# Altium integrated library Linear Technology Power Management System Supervisor, Monitor and Control.IntLib: 1611 symbols (part 37 of 100)
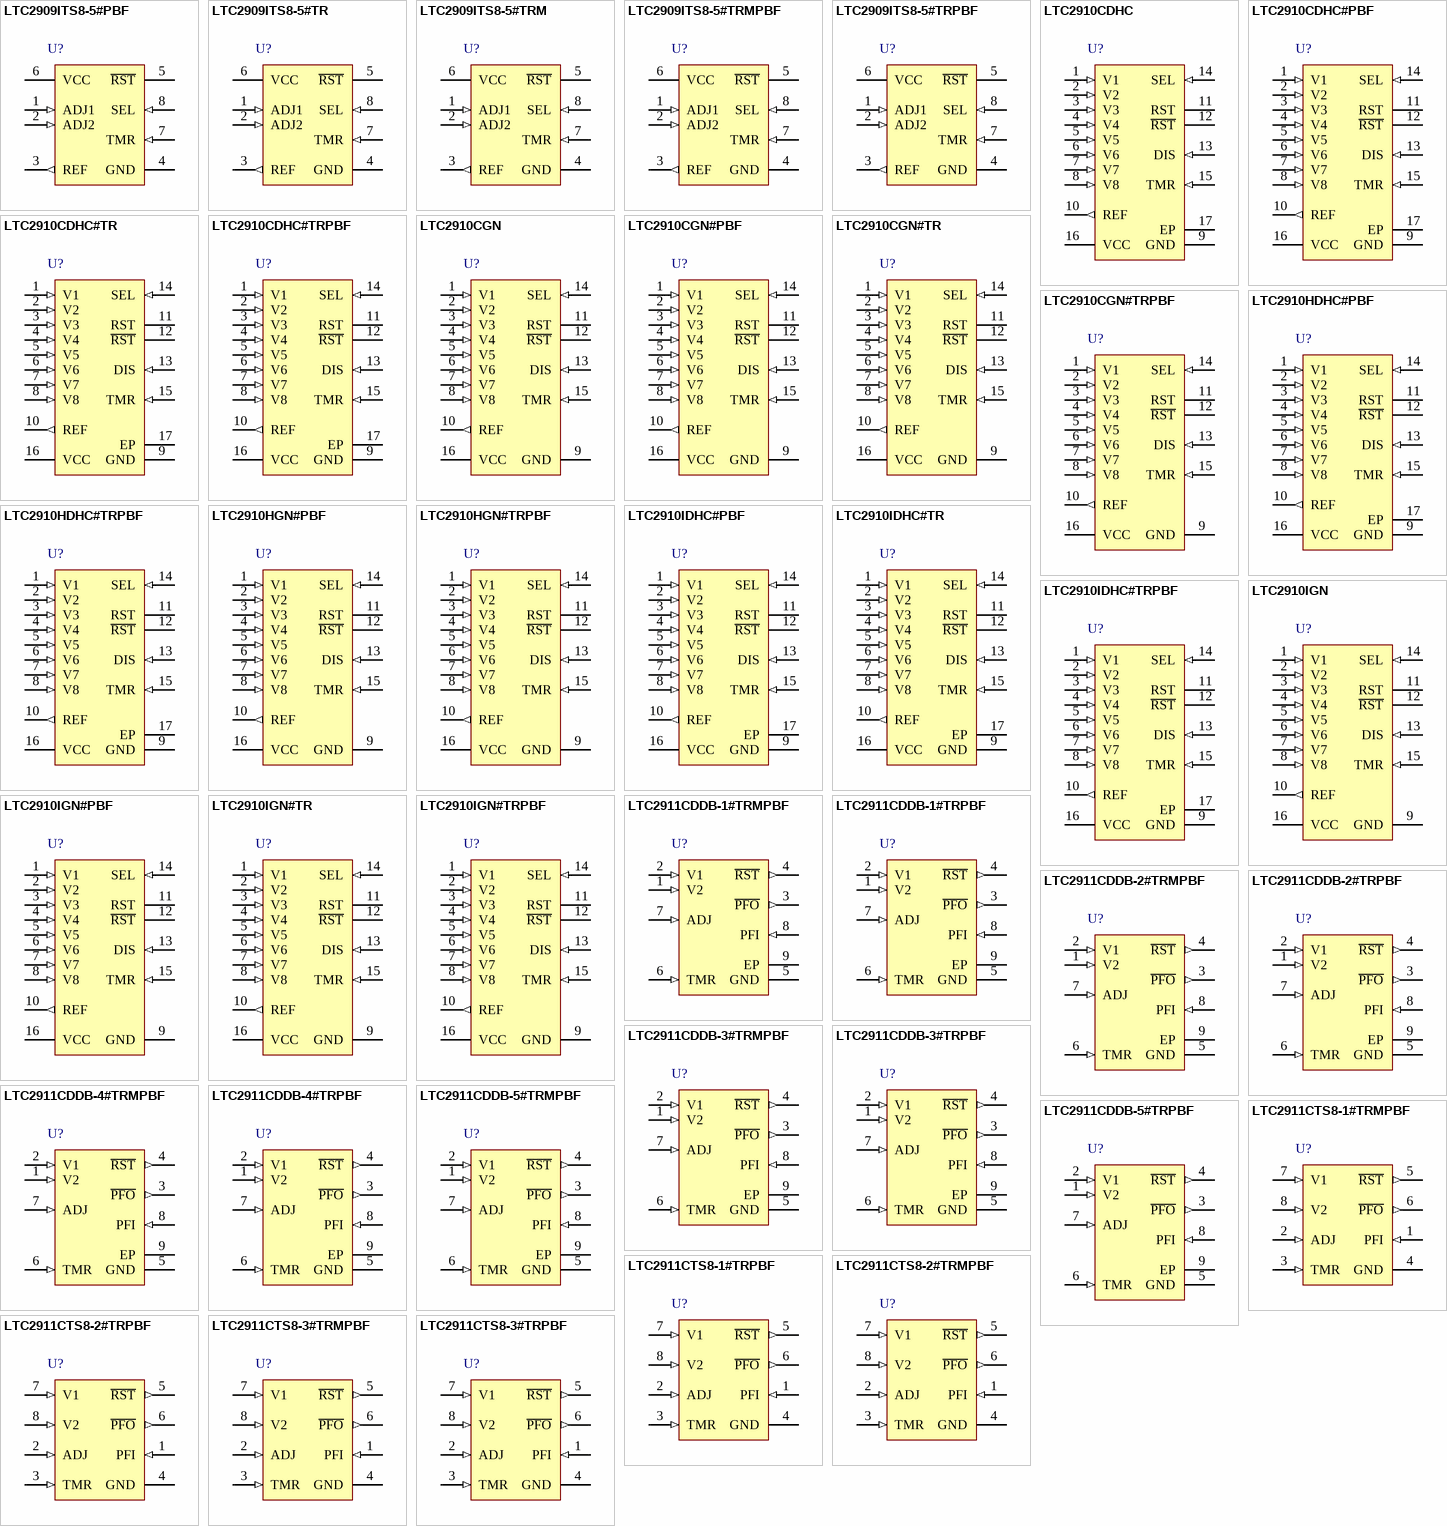
[diagram p81: symbols LTC2909ITS8-5#PBF to LTC2911CTS8-3#TRPBF]

## LTC2910HDHC#PBF
designator U?
Octal Positive / Negative Voltage Monitor, 16-pin SON (DHC-16), -40 to 125 degC, Pb-Free; Manufacturer: Linear Technology; PartNumber: LTC2910HDHC#PBF; Number of Supplies(#): 8; DatasheetVersion: Rev. C; PackageVersion: Jun-10; PackageReference: DHC-16; PackageDescription: 16-Pin Plastic DFN, Body 5 x 3 mm, Pitch 0.5 mm; Supplier 1: Digi-Key; Supplier Part Number 1: LTC2910HDHC#PBF-ND; RoHS: TRUE; Mounting Technology: Surface Mount; Code_JEDEC: MO-229; ComponentLink1Description: Manufacturer URL; ComponentLink1URL: http://www.linear.com/; ComponentLink2Description: Datasheet; ComponentLink2URL: http://cds.linear.com/docs/en/datasheet/2910fc.pdf; ComponentLink3Description: Package Specification; ComponentLink3URL: http://cds.linear.com/docs/en/packaging/DFN_16_05-08-1706.pdf
footprint LT-DHC-16_V (SON, 16-Leads, Body 5x3mm, Pitch 0.5mm, Thermal Pad 4.4X1.65mm)
pins: 1 V1 (in) "Voltage Inputs 1 through 6. When the voltage on this pin is below 0.5V, a reset condition is triggered. Tie pin to VCC if unused.", 2 V2 (in) "Voltage Inputs 1 through 6. When the voltage on this pin is below 0.5V, a reset condition is triggered. Tie pin to VCC if unused.", 3 V3 (in) "Voltage Inputs 1 through 6. When the voltage on this pin is below 0.5V, a reset condition is triggered. Tie pin to VCC if unused.", 4 V4 (in) "Voltage Inputs 1 through 6. When the voltage on this pin is below 0.5V, a reset condition is triggered. Tie pin to VCC if unused.", 5 V5 (in) "Voltage Inputs 1 through 6. When the voltage on this pin is below 0.5V, a reset condition is triggered. Tie pin to VCC if unused.", 6 V6 (in) "Voltage Inputs 1 through 6. When the voltage on this pin is below 0.5V, a reset condition is triggered. Tie pin to VCC if unused.", 7 V7 (in) "Voltage Inputs 7 and 8. The polarity of the input is selected by the state of the SEL pin (refer to Table 1). When the monitored input is configured as a positive voltage, a reset condition is triggered when the pin is below (See Datasheet)", 8 V8 (in) "Voltage Inputs 7 and 8. The polarity of the input is selected by the state of the SEL pin (refer to Table 1). When the monitored input is configured as a positive voltage, a reset condition is triggered when the pin is below (See Datasheet)", 9 GND (power) "Device Ground", 10 REF (out) "Buffered Reference Output. 1V reference used for the offset of negative-monitoring applications. The buffered reference sources and sinks up to 1mA. The reference drives capacitive loads up to 1nF. Larger capacitive loads (See Datasheet)", 11 RST (oc) "Open-Drain Reset Logic Output. Asserts high when any positive polarity input voltage is below threshold or any negative polarity input voltage is above threshold. Held high for an adjustable delay time after all voltage (See Datasheet)", 12 ~{RST} (oc) "Open-Drain Inverted Reset Logic Output. Asserts low when any positive polarity input voltage is below threshold or any negative polarity input voltage is above threshold. Held low for an adjustable delay time after all (See Datasheet)", 13 DIS (in) "Output Disable Input. Disables the RST and R\S\T\ output pins. When DIS is pulled high, the RST and R\S\T\ pins are not asserted except during a UVLO condition. Pin has a weak (2uA) internal pull-down to GND. Leave pin open (See Datasheet)", 14 SEL (in) "Input Polarity Select Three-State Input. Connect to VCC, GND or leave unconnected in open state to select one of three possible input polarity combinations (refer to Table 1).", 15 TMR (in) "Reset Delay Timer. Attach an external capacitor (CTMR) of at least 10pF to GND to set a reset delay time of 9ms/nF. A 1nF capacitor will generate an 8.5ms reset delay time. Tie pin to VCC to bypass timer", 16 VCC (power) "Supply Voltage. Bypass this pin to GND with a 0.1uF (or greater) capacitor. Operates as a direct supply input for voltages up to 6V. Operates as a shunt regulator for supply voltages greater than 6V and must have a (See Datasheet)", 17 EP (power) "Exposed pad may be left open or connected to device ground."

## LTC2910HDHC#TRPBF
designator U?
Octal Positive / Negative Voltage Monitor, 16-pin SON (DHC-16), -40 to 125 degC, Pb-Free, Tape and Reel; Manufacturer: Linear Technology; PartNumber: LTC2910HDHC#TRPBF; Number of Supplies(#): 8; DatasheetVersion: Rev. C; PackageVersion: Jun-10; PackageReference: DHC-16; PackageDescription: 16-Pin Plastic DFN, Body 5 x 3 mm, Pitch 0.5 mm; Supplier 1: Digi-Key; Supplier Part Number 1: LTC2910HDHC#TRPBF-ND; Supplier 2: Newark; Supplier Part Number 2: 75M4473; Packing: Tape and Reel; RoHS: TRUE; Mounting Technology: Surface Mount; Code_JEDEC: MO-229; ComponentLink1Description: Manufacturer URL; ComponentLink1URL: http://www.linear.com/; ComponentLink2Description: Datasheet; ComponentLink2URL: http://cds.linear.com/docs/en/datasheet/2910fc.pdf; ComponentLink3Description: Package Specification; ComponentLink3URL: http://cds.linear.com/docs/en/packaging/DFN_16_05-08-1706.pdf
footprint LT-DHC-16_V (SON, 16-Leads, Body 5x3mm, Pitch 0.5mm, Thermal Pad 4.4X1.65mm)
pins: 1 V1 (in) "Voltage Inputs 1 through 6. When the voltage on this pin is below 0.5V, a reset condition is triggered. Tie pin to VCC if unused.", 2 V2 (in) "Voltage Inputs 1 through 6. When the voltage on this pin is below 0.5V, a reset condition is triggered. Tie pin to VCC if unused.", 3 V3 (in) "Voltage Inputs 1 through 6. When the voltage on this pin is below 0.5V, a reset condition is triggered. Tie pin to VCC if unused.", 4 V4 (in) "Voltage Inputs 1 through 6. When the voltage on this pin is below 0.5V, a reset condition is triggered. Tie pin to VCC if unused.", 5 V5 (in) "Voltage Inputs 1 through 6. When the voltage on this pin is below 0.5V, a reset condition is triggered. Tie pin to VCC if unused.", 6 V6 (in) "Voltage Inputs 1 through 6. When the voltage on this pin is below 0.5V, a reset condition is triggered. Tie pin to VCC if unused.", 7 V7 (in) "Voltage Inputs 7 and 8. The polarity of the input is selected by the state of the SEL pin (refer to Table 1). When the monitored input is configured as a positive voltage, a reset condition is triggered when the pin is below (See Datasheet)", 8 V8 (in) "Voltage Inputs 7 and 8. The polarity of the input is selected by the state of the SEL pin (refer to Table 1). When the monitored input is configured as a positive voltage, a reset condition is triggered when the pin is below (See Datasheet)", 9 GND (power) "Device Ground", 10 REF (out) "Buffered Reference Output. 1V reference used for the offset of negative-monitoring applications. The buffered reference sources and sinks up to 1mA. The reference drives capacitive loads up to 1nF. Larger capacitive loads (See Datasheet)", 11 RST (oc) "Open-Drain Reset Logic Output. Asserts high when any positive polarity input voltage is below threshold or any negative polarity input voltage is above threshold. Held high for an adjustable delay time after all voltage (See Datasheet)", 12 ~{RST} (oc) "Open-Drain Inverted Reset Logic Output. Asserts low when any positive polarity input voltage is below threshold or any negative polarity input voltage is above threshold. Held low for an adjustable delay time after all (See Datasheet)", 13 DIS (in) "Output Disable Input. Disables the RST and R\S\T\ output pins. When DIS is pulled high, the RST and R\S\T\ pins are not asserted except during a UVLO condition. Pin has a weak (2uA) internal pull-down to GND. Leave pin open (See Datasheet)", 14 SEL (in) "Input Polarity Select Three-State Input. Connect to VCC, GND or leave unconnected in open state to select one of three possible input polarity combinations (refer to Table 1).", 15 TMR (in) "Reset Delay Timer. Attach an external capacitor (CTMR) of at least 10pF to GND to set a reset delay time of 9ms/nF. A 1nF capacitor will generate an 8.5ms reset delay time. Tie pin to VCC to bypass timer", 16 VCC (power) "Supply Voltage. Bypass this pin to GND with a 0.1uF (or greater) capacitor. Operates as a direct supply input for voltages up to 6V. Operates as a shunt regulator for supply voltages greater than 6V and must have a (See Datasheet)", 17 EP (power) "Exposed pad may be left open or connected to device ground."

## LTC2910HGN#PBF
designator U?
Octal Positive / Negative Voltage Monitor, 16-pin SOP (GN-16), -40 to 125 degC, Pb-Free; Manufacturer: Linear Technology; PartNumber: LTC2910HGN#PBF; Number of Supplies(#): 8; DatasheetVersion: Rev. C; PackageVersion: Rev. B, 03/2012; PackageReference: GN-16; PackageDescription: 16-Pin Plastic SSOP, Body 4.9 x 3.9 mm, Pitch 0.635 mm; Supplier 1: Digi-Key; Supplier Part Number 1: LTC2910HGN#PBF-ND; Supplier 2: Newark; Supplier Part Number 2: 75M4474; RoHS: TRUE; Mounting Technology: Surface Mount; ComponentLink1Description: Manufacturer URL; ComponentLink1URL: http://www.linear.com/; ComponentLink2Description: Datasheet; ComponentLink2URL: http://cds.linear.com/docs/en/datasheet/2910fc.pdf; ComponentLink3Description: Package Specification; ComponentLink3URL: http://cds.linear.com/docs/en/packaging/05081641_B_GN16.pdf
footprint LT-GN-16_N (SOP, 16-Leads, Body 5x4mm, Pitch 0.635mm, IPC Medium Density)
footprint LT-GN-16_L (SOP, 16-Leads, Body 5x4mm, Pitch 0.635mm, IPC High Density)
footprint LT-GN-16_M (SOP, 16-Leads, Body 5x4mm, Pitch 0.635mm, IPC Low Density)
pins: 1 V1 (in) "Voltage Inputs 1 through 6. When the voltage on this pin is below 0.5V, a reset condition is triggered. Tie pin to VCC if unused.", 2 V2 (in) "Voltage Inputs 1 through 6. When the voltage on this pin is below 0.5V, a reset condition is triggered. Tie pin to VCC if unused.", 3 V3 (in) "Voltage Inputs 1 through 6. When the voltage on this pin is below 0.5V, a reset condition is triggered. Tie pin to VCC if unused.", 4 V4 (in) "Voltage Inputs 1 through 6. When the voltage on this pin is below 0.5V, a reset condition is triggered. Tie pin to VCC if unused.", 5 V5 (in) "Voltage Inputs 1 through 6. When the voltage on this pin is below 0.5V, a reset condition is triggered. Tie pin to VCC if unused.", 6 V6 (in) "Voltage Inputs 1 through 6. When the voltage on this pin is below 0.5V, a reset condition is triggered. Tie pin to VCC if unused.", 7 V7 (in) "Voltage Inputs 7 and 8. The polarity of the input is selected by the state of the SEL pin (refer to Table 1). When the monitored input is configured as a positive voltage, a reset condition is triggered when the pin is below (See Datasheet)", 8 V8 (in) "Voltage Inputs 7 and 8. The polarity of the input is selected by the state of the SEL pin (refer to Table 1). When the monitored input is configured as a positive voltage, a reset condition is triggered when the pin is below (See Datasheet)", 9 GND (power) "Device Ground", 10 REF (out) "Buffered Reference Output. 1V reference used for the offset of negative-monitoring applications. The buffered reference sources and sinks up to 1mA. The reference drives capacitive loads up to 1nF. Larger capacitive loads (See Datasheet)", 11 RST (oc) "Open-Drain Reset Logic Output. Asserts high when any positive polarity input voltage is below threshold or any negative polarity input voltage is above threshold. Held high for an adjustable delay time after all voltage (See Datasheet)", 12 ~{RST} (oc) "Open-Drain Inverted Reset Logic Output. Asserts low when any positive polarity input voltage is below threshold or any negative polarity input voltage is above threshold. Held low for an adjustable delay time after all (See Datasheet)", 13 DIS (in) "Output Disable Input. Disables the RST and R\S\T\ output pins. When DIS is pulled high, the RST and R\S\T\ pins are not asserted except during a UVLO condition. Pin has a weak (2uA) internal pull-down to GND. Leave pin open (See Datasheet)", 14 SEL (in) "Input Polarity Select Three-State Input. Connect to VCC, GND or leave unconnected in open state to select one of three possible input polarity combinations (refer to Table 1).", 15 TMR (in) "Reset Delay Timer. Attach an external capacitor (CTMR) of at least 10pF to GND to set a reset delay time of 9ms/nF. A 1nF capacitor will generate an 8.5ms reset delay time. Tie pin to VCC to bypass timer", 16 VCC (power) "Supply Voltage. Bypass this pin to GND with a 0.1uF (or greater) capacitor. Operates as a direct supply input for voltages up to 6V. Operates as a shunt regulator for supply voltages greater than 6V and must have a (See Datasheet)"

## LTC2910HGN#TRPBF
designator U?
Octal Positive / Negative Voltage Monitor, 16-pin SOP (GN-16), -40 to 125 degC, Pb-Free, Tape and Reel; Manufacturer: Linear Technology; PartNumber: LTC2910HGN#TRPBF; Number of Supplies(#): 8; DatasheetVersion: Rev. C; PackageVersion: Rev. B, 03/2012; PackageReference: GN-16; PackageDescription: 16-Pin Plastic SSOP, Body 4.9 x 3.9 mm, Pitch 0.635 mm; Supplier 1: Digi-Key; Supplier Part Number 1: LTC2910HGN#TRPBF-ND; Packing: Tape and Reel; RoHS: TRUE; Mounting Technology: Surface Mount; ComponentLink1Description: Manufacturer URL; ComponentLink1URL: http://www.linear.com/; ComponentLink2Description: Datasheet; ComponentLink2URL: http://cds.linear.com/docs/en/datasheet/2910fc.pdf; ComponentLink3Description: Package Specification; ComponentLink3URL: http://cds.linear.com/docs/en/packaging/05081641_B_GN16.pdf
footprint LT-GN-16_N (SOP, 16-Leads, Body 5x4mm, Pitch 0.635mm, IPC Medium Density)
footprint LT-GN-16_L (SOP, 16-Leads, Body 5x4mm, Pitch 0.635mm, IPC High Density)
footprint LT-GN-16_M (SOP, 16-Leads, Body 5x4mm, Pitch 0.635mm, IPC Low Density)
pins: 1 V1 (in) "Voltage Inputs 1 through 6. When the voltage on this pin is below 0.5V, a reset condition is triggered. Tie pin to VCC if unused.", 2 V2 (in) "Voltage Inputs 1 through 6. When the voltage on this pin is below 0.5V, a reset condition is triggered. Tie pin to VCC if unused.", 3 V3 (in) "Voltage Inputs 1 through 6. When the voltage on this pin is below 0.5V, a reset condition is triggered. Tie pin to VCC if unused.", 4 V4 (in) "Voltage Inputs 1 through 6. When the voltage on this pin is below 0.5V, a reset condition is triggered. Tie pin to VCC if unused.", 5 V5 (in) "Voltage Inputs 1 through 6. When the voltage on this pin is below 0.5V, a reset condition is triggered. Tie pin to VCC if unused.", 6 V6 (in) "Voltage Inputs 1 through 6. When the voltage on this pin is below 0.5V, a reset condition is triggered. Tie pin to VCC if unused.", 7 V7 (in) "Voltage Inputs 7 and 8. The polarity of the input is selected by the state of the SEL pin (refer to Table 1). When the monitored input is configured as a positive voltage, a reset condition is triggered when the pin is below (See Datasheet)", 8 V8 (in) "Voltage Inputs 7 and 8. The polarity of the input is selected by the state of the SEL pin (refer to Table 1). When the monitored input is configured as a positive voltage, a reset condition is triggered when the pin is below (See Datasheet)", 9 GND (power) "Device Ground", 10 REF (out) "Buffered Reference Output. 1V reference used for the offset of negative-monitoring applications. The buffered reference sources and sinks up to 1mA. The reference drives capacitive loads up to 1nF. Larger capacitive loads (See Datasheet)", 11 RST (oc) "Open-Drain Reset Logic Output. Asserts high when any positive polarity input voltage is below threshold or any negative polarity input voltage is above threshold. Held high for an adjustable delay time after all voltage (See Datasheet)", 12 ~{RST} (oc) "Open-Drain Inverted Reset Logic Output. Asserts low when any positive polarity input voltage is below threshold or any negative polarity input voltage is above threshold. Held low for an adjustable delay time after all (See Datasheet)", 13 DIS (in) "Output Disable Input. Disables the RST and R\S\T\ output pins. When DIS is pulled high, the RST and R\S\T\ pins are not asserted except during a UVLO condition. Pin has a weak (2uA) internal pull-down to GND. Leave pin open (See Datasheet)", 14 SEL (in) "Input Polarity Select Three-State Input. Connect to VCC, GND or leave unconnected in open state to select one of three possible input polarity combinations (refer to Table 1).", 15 TMR (in) "Reset Delay Timer. Attach an external capacitor (CTMR) of at least 10pF to GND to set a reset delay time of 9ms/nF. A 1nF capacitor will generate an 8.5ms reset delay time. Tie pin to VCC to bypass timer", 16 VCC (power) "Supply Voltage. Bypass this pin to GND with a 0.1uF (or greater) capacitor. Operates as a direct supply input for voltages up to 6V. Operates as a shunt regulator for supply voltages greater than 6V and must have a (See Datasheet)"

## LTC2910IDHC#PBF
designator U?
Octal Positive / Negative Voltage Monitor, 16-pin SON (DHC-16), -40 to 85 degC, Pb-Free; Manufacturer: Linear Technology; PartNumber: LTC2910IDHC#PBF; Number of Supplies(#): 8; DatasheetVersion: Rev. C; PackageVersion: Jun-10; PackageReference: DHC-16; PackageDescription: 16-Pin Plastic DFN, Body 5 x 3 mm, Pitch 0.5 mm; Supplier 1: Digi-Key; Supplier Part Number 1: LTC2910IDHC#PBF-ND; Supplier 2: Farnell; Supplier Part Number 2: 2295417; Supplier 3: Newark; Supplier Part Number 3: 20M3696; RoHS: TRUE; Mounting Technology: Surface Mount; Code_JEDEC: MO-229; ComponentLink1Description: Manufacturer URL; ComponentLink1URL: http://www.linear.com/; ComponentLink2Description: Datasheet; ComponentLink2URL: http://cds.linear.com/docs/en/datasheet/2910fc.pdf; ComponentLink3Description: Package Specification; ComponentLink3URL: http://cds.linear.com/docs/en/packaging/DFN_16_05-08-1706.pdf
footprint LT-DHC-16_V (SON, 16-Leads, Body 5x3mm, Pitch 0.5mm, Thermal Pad 4.4X1.65mm)
pins: 1 V1 (in) "Voltage Inputs 1 through 6. When the voltage on this pin is below 0.5V, a reset condition is triggered. Tie pin to VCC if unused.", 2 V2 (in) "Voltage Inputs 1 through 6. When the voltage on this pin is below 0.5V, a reset condition is triggered. Tie pin to VCC if unused.", 3 V3 (in) "Voltage Inputs 1 through 6. When the voltage on this pin is below 0.5V, a reset condition is triggered. Tie pin to VCC if unused.", 4 V4 (in) "Voltage Inputs 1 through 6. When the voltage on this pin is below 0.5V, a reset condition is triggered. Tie pin to VCC if unused.", 5 V5 (in) "Voltage Inputs 1 through 6. When the voltage on this pin is below 0.5V, a reset condition is triggered. Tie pin to VCC if unused.", 6 V6 (in) "Voltage Inputs 1 through 6. When the voltage on this pin is below 0.5V, a reset condition is triggered. Tie pin to VCC if unused.", 7 V7 (in) "Voltage Inputs 7 and 8. The polarity of the input is selected by the state of the SEL pin (refer to Table 1). When the monitored input is configured as a positive voltage, a reset condition is triggered when the pin is below (See Datasheet)", 8 V8 (in) "Voltage Inputs 7 and 8. The polarity of the input is selected by the state of the SEL pin (refer to Table 1). When the monitored input is configured as a positive voltage, a reset condition is triggered when the pin is below (See Datasheet)", 9 GND (power) "Device Ground", 10 REF (out) "Buffered Reference Output. 1V reference used for the offset of negative-monitoring applications. The buffered reference sources and sinks up to 1mA. The reference drives capacitive loads up to 1nF. Larger capacitive loads (See Datasheet)", 11 RST (oc) "Open-Drain Reset Logic Output. Asserts high when any positive polarity input voltage is below threshold or any negative polarity input voltage is above threshold. Held high for an adjustable delay time after all voltage (See Datasheet)", 12 ~{RST} (oc) "Open-Drain Inverted Reset Logic Output. Asserts low when any positive polarity input voltage is below threshold or any negative polarity input voltage is above threshold. Held low for an adjustable delay time after all (See Datasheet)", 13 DIS (in) "Output Disable Input. Disables the RST and R\S\T\ output pins. When DIS is pulled high, the RST and R\S\T\ pins are not asserted except during a UVLO condition. Pin has a weak (2uA) internal pull-down to GND. Leave pin open (See Datasheet)", 14 SEL (in) "Input Polarity Select Three-State Input. Connect to VCC, GND or leave unconnected in open state to select one of three possible input polarity combinations (refer to Table 1).", 15 TMR (in) "Reset Delay Timer. Attach an external capacitor (CTMR) of at least 10pF to GND to set a reset delay time of 9ms/nF. A 1nF capacitor will generate an 8.5ms reset delay time. Tie pin to VCC to bypass timer", 16 VCC (power) "Supply Voltage. Bypass this pin to GND with a 0.1uF (or greater) capacitor. Operates as a direct supply input for voltages up to 6V. Operates as a shunt regulator for supply voltages greater than 6V and must have a (See Datasheet)", 17 EP (power) "Exposed pad may be left open or connected to device ground."

## LTC2910IDHC#TR
designator U?
Octal Positive / Negative Voltage Monitor, 16-pin SON (DHC-16), -40 to 85 degC, Tape and Reel; Manufacturer: Linear Technology; PartNumber: LTC2910IDHC#TR; Number of Supplies(#): 8; DatasheetVersion: Rev. C; PackageVersion: Jun-10; PackageReference: DHC-16; PackageDescription: 16-Pin Plastic DFN, Body 5 x 3 mm, Pitch 0.5 mm; Packing: Tape and Reel; RoHS: FALSE; Mounting Technology: Surface Mount; Code_JEDEC: MO-229; ComponentLink1Description: Manufacturer URL; ComponentLink1URL: http://www.linear.com/; ComponentLink2Description: Datasheet; ComponentLink2URL: http://cds.linear.com/docs/en/datasheet/2910fc.pdf; ComponentLink3Description: Package Specification; ComponentLink3URL: http://cds.linear.com/docs/en/packaging/DFN_16_05-08-1706.pdf
footprint LT-DHC-16_V (SON, 16-Leads, Body 5x3mm, Pitch 0.5mm, Thermal Pad 4.4X1.65mm)
pins: 1 V1 (in) "Voltage Inputs 1 through 6. When the voltage on this pin is below 0.5V, a reset condition is triggered. Tie pin to VCC if unused.", 2 V2 (in) "Voltage Inputs 1 through 6. When the voltage on this pin is below 0.5V, a reset condition is triggered. Tie pin to VCC if unused.", 3 V3 (in) "Voltage Inputs 1 through 6. When the voltage on this pin is below 0.5V, a reset condition is triggered. Tie pin to VCC if unused.", 4 V4 (in) "Voltage Inputs 1 through 6. When the voltage on this pin is below 0.5V, a reset condition is triggered. Tie pin to VCC if unused.", 5 V5 (in) "Voltage Inputs 1 through 6. When the voltage on this pin is below 0.5V, a reset condition is triggered. Tie pin to VCC if unused.", 6 V6 (in) "Voltage Inputs 1 through 6. When the voltage on this pin is below 0.5V, a reset condition is triggered. Tie pin to VCC if unused.", 7 V7 (in) "Voltage Inputs 7 and 8. The polarity of the input is selected by the state of the SEL pin (refer to Table 1). When the monitored input is configured as a positive voltage, a reset condition is triggered when the pin is below (See Datasheet)", 8 V8 (in) "Voltage Inputs 7 and 8. The polarity of the input is selected by the state of the SEL pin (refer to Table 1). When the monitored input is configured as a positive voltage, a reset condition is triggered when the pin is below (See Datasheet)", 9 GND (power) "Device Ground", 10 REF (out) "Buffered Reference Output. 1V reference used for the offset of negative-monitoring applications. The buffered reference sources and sinks up to 1mA. The reference drives capacitive loads up to 1nF. Larger capacitive loads (See Datasheet)", 11 RST (oc) "Open-Drain Reset Logic Output. Asserts high when any positive polarity input voltage is below threshold or any negative polarity input voltage is above threshold. Held high for an adjustable delay time after all voltage (See Datasheet)", 12 ~{RST} (oc) "Open-Drain Inverted Reset Logic Output. Asserts low when any positive polarity input voltage is below threshold or any negative polarity input voltage is above threshold. Held low for an adjustable delay time after all (See Datasheet)", 13 DIS (in) "Output Disable Input. Disables the RST and R\S\T\ output pins. When DIS is pulled high, the RST and R\S\T\ pins are not asserted except during a UVLO condition. Pin has a weak (2uA) internal pull-down to GND. Leave pin open (See Datasheet)", 14 SEL (in) "Input Polarity Select Three-State Input. Connect to VCC, GND or leave unconnected in open state to select one of three possible input polarity combinations (refer to Table 1).", 15 TMR (in) "Reset Delay Timer. Attach an external capacitor (CTMR) of at least 10pF to GND to set a reset delay time of 9ms/nF. A 1nF capacitor will generate an 8.5ms reset delay time. Tie pin to VCC to bypass timer", 16 VCC (power) "Supply Voltage. Bypass this pin to GND with a 0.1uF (or greater) capacitor. Operates as a direct supply input for voltages up to 6V. Operates as a shunt regulator for supply voltages greater than 6V and must have a (See Datasheet)", 17 EP (power) "Exposed pad may be left open or connected to device ground."

## LTC2910IDHC#TRPBF
designator U?
Octal Positive / Negative Voltage Monitor, 16-pin SON (DHC-16), -40 to 85 degC, Pb-Free, Tape and Reel; Manufacturer: Linear Technology; PartNumber: LTC2910IDHC#TRPBF; Number of Supplies(#): 8; DatasheetVersion: Rev. C; PackageVersion: Jun-10; PackageReference: DHC-16; PackageDescription: 16-Pin Plastic DFN, Body 5 x 3 mm, Pitch 0.5 mm; Supplier 1: Digi-Key; Supplier Part Number 1: LTC2910IDHC#TRPBF-ND; Supplier 2: Newark; Supplier Part Number 2: 56M6829; Packing: Tape and Reel; RoHS: TRUE; Mounting Technology: Surface Mount; Code_JEDEC: MO-229; ComponentLink1Description: Manufacturer URL; ComponentLink1URL: http://www.linear.com/; ComponentLink2Description: Datasheet; ComponentLink2URL: http://cds.linear.com/docs/en/datasheet/2910fc.pdf; ComponentLink3Description: Package Specification; ComponentLink3URL: http://cds.linear.com/docs/en/packaging/DFN_16_05-08-1706.pdf
footprint LT-DHC-16_V (SON, 16-Leads, Body 5x3mm, Pitch 0.5mm, Thermal Pad 4.4X1.65mm)
pins: 1 V1 (in) "Voltage Inputs 1 through 6. When the voltage on this pin is below 0.5V, a reset condition is triggered. Tie pin to VCC if unused.", 2 V2 (in) "Voltage Inputs 1 through 6. When the voltage on this pin is below 0.5V, a reset condition is triggered. Tie pin to VCC if unused.", 3 V3 (in) "Voltage Inputs 1 through 6. When the voltage on this pin is below 0.5V, a reset condition is triggered. Tie pin to VCC if unused.", 4 V4 (in) "Voltage Inputs 1 through 6. When the voltage on this pin is below 0.5V, a reset condition is triggered. Tie pin to VCC if unused.", 5 V5 (in) "Voltage Inputs 1 through 6. When the voltage on this pin is below 0.5V, a reset condition is triggered. Tie pin to VCC if unused.", 6 V6 (in) "Voltage Inputs 1 through 6. When the voltage on this pin is below 0.5V, a reset condition is triggered. Tie pin to VCC if unused.", 7 V7 (in) "Voltage Inputs 7 and 8. The polarity of the input is selected by the state of the SEL pin (refer to Table 1). When the monitored input is configured as a positive voltage, a reset condition is triggered when the pin is below (See Datasheet)", 8 V8 (in) "Voltage Inputs 7 and 8. The polarity of the input is selected by the state of the SEL pin (refer to Table 1). When the monitored input is configured as a positive voltage, a reset condition is triggered when the pin is below (See Datasheet)", 9 GND (power) "Device Ground", 10 REF (out) "Buffered Reference Output. 1V reference used for the offset of negative-monitoring applications. The buffered reference sources and sinks up to 1mA. The reference drives capacitive loads up to 1nF. Larger capacitive loads (See Datasheet)", 11 RST (oc) "Open-Drain Reset Logic Output. Asserts high when any positive polarity input voltage is below threshold or any negative polarity input voltage is above threshold. Held high for an adjustable delay time after all voltage (See Datasheet)", 12 ~{RST} (oc) "Open-Drain Inverted Reset Logic Output. Asserts low when any positive polarity input voltage is below threshold or any negative polarity input voltage is above threshold. Held low for an adjustable delay time after all (See Datasheet)", 13 DIS (in) "Output Disable Input. Disables the RST and R\S\T\ output pins. When DIS is pulled high, the RST and R\S\T\ pins are not asserted except during a UVLO condition. Pin has a weak (2uA) internal pull-down to GND. Leave pin open (See Datasheet)", 14 SEL (in) "Input Polarity Select Three-State Input. Connect to VCC, GND or leave unconnected in open state to select one of three possible input polarity combinations (refer to Table 1).", 15 TMR (in) "Reset Delay Timer. Attach an external capacitor (CTMR) of at least 10pF to GND to set a reset delay time of 9ms/nF. A 1nF capacitor will generate an 8.5ms reset delay time. Tie pin to VCC to bypass timer", 16 VCC (power) "Supply Voltage. Bypass this pin to GND with a 0.1uF (or greater) capacitor. Operates as a direct supply input for voltages up to 6V. Operates as a shunt regulator for supply voltages greater than 6V and must have a (See Datasheet)", 17 EP (power) "Exposed pad may be left open or connected to device ground."

## LTC2910IGN
designator U?
Octal Positive / Negative Voltage Monitor, 16-pin SOP (GN-16), -40 to 85 degC; Manufacturer: Linear Technology; PartNumber: LTC2910IGN; Number of Supplies(#): 8; DatasheetVersion: Rev. C; PackageVersion: Rev. B, 03/2012; PackageReference: GN-16; PackageDescription: 16-Pin Plastic SSOP, Body 4.9 x 3.9 mm, Pitch 0.635 mm; RoHS: FALSE; Mounting Technology: Surface Mount; ComponentLink1Description: Manufacturer URL; ComponentLink1URL: http://www.linear.com/; ComponentLink2Description: Datasheet; ComponentLink2URL: http://cds.linear.com/docs/en/datasheet/2910fc.pdf; ComponentLink3Description: Package Specification; ComponentLink3URL: http://cds.linear.com/docs/en/packaging/05081641_B_GN16.pdf
footprint LT-GN-16_N (SOP, 16-Leads, Body 5x4mm, Pitch 0.635mm, IPC Medium Density)
footprint LT-GN-16_L (SOP, 16-Leads, Body 5x4mm, Pitch 0.635mm, IPC High Density)
footprint LT-GN-16_M (SOP, 16-Leads, Body 5x4mm, Pitch 0.635mm, IPC Low Density)
pins: 1 V1 (in) "Voltage Inputs 1 through 6. When the voltage on this pin is below 0.5V, a reset condition is triggered. Tie pin to VCC if unused.", 2 V2 (in) "Voltage Inputs 1 through 6. When the voltage on this pin is below 0.5V, a reset condition is triggered. Tie pin to VCC if unused.", 3 V3 (in) "Voltage Inputs 1 through 6. When the voltage on this pin is below 0.5V, a reset condition is triggered. Tie pin to VCC if unused.", 4 V4 (in) "Voltage Inputs 1 through 6. When the voltage on this pin is below 0.5V, a reset condition is triggered. Tie pin to VCC if unused.", 5 V5 (in) "Voltage Inputs 1 through 6. When the voltage on this pin is below 0.5V, a reset condition is triggered. Tie pin to VCC if unused.", 6 V6 (in) "Voltage Inputs 1 through 6. When the voltage on this pin is below 0.5V, a reset condition is triggered. Tie pin to VCC if unused.", 7 V7 (in) "Voltage Inputs 7 and 8. The polarity of the input is selected by the state of the SEL pin (refer to Table 1). When the monitored input is configured as a positive voltage, a reset condition is triggered when the pin is below (See Datasheet)", 8 V8 (in) "Voltage Inputs 7 and 8. The polarity of the input is selected by the state of the SEL pin (refer to Table 1). When the monitored input is configured as a positive voltage, a reset condition is triggered when the pin is below (See Datasheet)", 9 GND (power) "Device Ground", 10 REF (out) "Buffered Reference Output. 1V reference used for the offset of negative-monitoring applications. The buffered reference sources and sinks up to 1mA. The reference drives capacitive loads up to 1nF. Larger capacitive loads (See Datasheet)", 11 RST (oc) "Open-Drain Reset Logic Output. Asserts high when any positive polarity input voltage is below threshold or any negative polarity input voltage is above threshold. Held high for an adjustable delay time after all voltage (See Datasheet)", 12 ~{RST} (oc) "Open-Drain Inverted Reset Logic Output. Asserts low when any positive polarity input voltage is below threshold or any negative polarity input voltage is above threshold. Held low for an adjustable delay time after all (See Datasheet)", 13 DIS (in) "Output Disable Input. Disables the RST and R\S\T\ output pins. When DIS is pulled high, the RST and R\S\T\ pins are not asserted except during a UVLO condition. Pin has a weak (2uA) internal pull-down to GND. Leave pin open (See Datasheet)", 14 SEL (in) "Input Polarity Select Three-State Input. Connect to VCC, GND or leave unconnected in open state to select one of three possible input polarity combinations (refer to Table 1).", 15 TMR (in) "Reset Delay Timer. Attach an external capacitor (CTMR) of at least 10pF to GND to set a reset delay time of 9ms/nF. A 1nF capacitor will generate an 8.5ms reset delay time. Tie pin to VCC to bypass timer", 16 VCC (power) "Supply Voltage. Bypass this pin to GND with a 0.1uF (or greater) capacitor. Operates as a direct supply input for voltages up to 6V. Operates as a shunt regulator for supply voltages greater than 6V and must have a (See Datasheet)"

## LTC2910IGN#PBF
designator U?
Octal Positive / Negative Voltage Monitor, 16-pin SOP (GN-16), -40 to 85 degC, Pb-Free; Manufacturer: Linear Technology; PartNumber: LTC2910IGN#PBF; Number of Supplies(#): 8; DatasheetVersion: Rev. C; PackageVersion: Rev. B, 03/2012; PackageReference: GN-16; PackageDescription: 16-Pin Plastic SSOP, Body 4.9 x 3.9 mm, Pitch 0.635 mm; Supplier 1: Digi-Key; Supplier Part Number 1: LTC2910IGN#PBF-ND; Supplier 2: Farnell; Supplier Part Number 2: 2295418; Supplier 3: Newark; Supplier Part Number 3: 56M6831; RoHS: TRUE; Mounting Technology: Surface Mount; ComponentLink1Description: Manufacturer URL; ComponentLink1URL: http://www.linear.com/; ComponentLink2Description: Datasheet; ComponentLink2URL: http://cds.linear.com/docs/en/datasheet/2910fc.pdf; ComponentLink3Description: Package Specification; ComponentLink3URL: http://cds.linear.com/docs/en/packaging/05081641_B_GN16.pdf
footprint LT-GN-16_N (SOP, 16-Leads, Body 5x4mm, Pitch 0.635mm, IPC Medium Density)
footprint LT-GN-16_L (SOP, 16-Leads, Body 5x4mm, Pitch 0.635mm, IPC High Density)
footprint LT-GN-16_M (SOP, 16-Leads, Body 5x4mm, Pitch 0.635mm, IPC Low Density)
pins: 1 V1 (in) "Voltage Inputs 1 through 6. When the voltage on this pin is below 0.5V, a reset condition is triggered. Tie pin to VCC if unused.", 2 V2 (in) "Voltage Inputs 1 through 6. When the voltage on this pin is below 0.5V, a reset condition is triggered. Tie pin to VCC if unused.", 3 V3 (in) "Voltage Inputs 1 through 6. When the voltage on this pin is below 0.5V, a reset condition is triggered. Tie pin to VCC if unused.", 4 V4 (in) "Voltage Inputs 1 through 6. When the voltage on this pin is below 0.5V, a reset condition is triggered. Tie pin to VCC if unused.", 5 V5 (in) "Voltage Inputs 1 through 6. When the voltage on this pin is below 0.5V, a reset condition is triggered. Tie pin to VCC if unused.", 6 V6 (in) "Voltage Inputs 1 through 6. When the voltage on this pin is below 0.5V, a reset condition is triggered. Tie pin to VCC if unused.", 7 V7 (in) "Voltage Inputs 7 and 8. The polarity of the input is selected by the state of the SEL pin (refer to Table 1). When the monitored input is configured as a positive voltage, a reset condition is triggered when the pin is below (See Datasheet)", 8 V8 (in) "Voltage Inputs 7 and 8. The polarity of the input is selected by the state of the SEL pin (refer to Table 1). When the monitored input is configured as a positive voltage, a reset condition is triggered when the pin is below (See Datasheet)", 9 GND (power) "Device Ground", 10 REF (out) "Buffered Reference Output. 1V reference used for the offset of negative-monitoring applications. The buffered reference sources and sinks up to 1mA. The reference drives capacitive loads up to 1nF. Larger capacitive loads (See Datasheet)", 11 RST (oc) "Open-Drain Reset Logic Output. Asserts high when any positive polarity input voltage is below threshold or any negative polarity input voltage is above threshold. Held high for an adjustable delay time after all voltage (See Datasheet)", 12 ~{RST} (oc) "Open-Drain Inverted Reset Logic Output. Asserts low when any positive polarity input voltage is below threshold or any negative polarity input voltage is above threshold. Held low for an adjustable delay time after all (See Datasheet)", 13 DIS (in) "Output Disable Input. Disables the RST and R\S\T\ output pins. When DIS is pulled high, the RST and R\S\T\ pins are not asserted except during a UVLO condition. Pin has a weak (2uA) internal pull-down to GND. Leave pin open (See Datasheet)", 14 SEL (in) "Input Polarity Select Three-State Input. Connect to VCC, GND or leave unconnected in open state to select one of three possible input polarity combinations (refer to Table 1).", 15 TMR (in) "Reset Delay Timer. Attach an external capacitor (CTMR) of at least 10pF to GND to set a reset delay time of 9ms/nF. A 1nF capacitor will generate an 8.5ms reset delay time. Tie pin to VCC to bypass timer", 16 VCC (power) "Supply Voltage. Bypass this pin to GND with a 0.1uF (or greater) capacitor. Operates as a direct supply input for voltages up to 6V. Operates as a shunt regulator for supply voltages greater than 6V and must have a (See Datasheet)"

## LTC2910IGN#TR
designator U?
Octal Positive / Negative Voltage Monitor, 16-pin SOP (GN-16), -40 to 85 degC, Tape and Reel; Manufacturer: Linear Technology; PartNumber: LTC2910IGN#TR; Number of Supplies(#): 8; DatasheetVersion: Rev. C; PackageVersion: Rev. B, 03/2012; PackageReference: GN-16; PackageDescription: 16-Pin Plastic SSOP, Body 4.9 x 3.9 mm, Pitch 0.635 mm; Packing: Tape and Reel; RoHS: FALSE; Mounting Technology: Surface Mount; ComponentLink1Description: Manufacturer URL; ComponentLink1URL: http://www.linear.com/; ComponentLink2Description: Datasheet; ComponentLink2URL: http://cds.linear.com/docs/en/datasheet/2910fc.pdf; ComponentLink3Description: Package Specification; ComponentLink3URL: http://cds.linear.com/docs/en/packaging/05081641_B_GN16.pdf
footprint LT-GN-16_N (SOP, 16-Leads, Body 5x4mm, Pitch 0.635mm, IPC Medium Density)
footprint LT-GN-16_L (SOP, 16-Leads, Body 5x4mm, Pitch 0.635mm, IPC High Density)
footprint LT-GN-16_M (SOP, 16-Leads, Body 5x4mm, Pitch 0.635mm, IPC Low Density)
pins: 1 V1 (in) "Voltage Inputs 1 through 6. When the voltage on this pin is below 0.5V, a reset condition is triggered. Tie pin to VCC if unused.", 2 V2 (in) "Voltage Inputs 1 through 6. When the voltage on this pin is below 0.5V, a reset condition is triggered. Tie pin to VCC if unused.", 3 V3 (in) "Voltage Inputs 1 through 6. When the voltage on this pin is below 0.5V, a reset condition is triggered. Tie pin to VCC if unused.", 4 V4 (in) "Voltage Inputs 1 through 6. When the voltage on this pin is below 0.5V, a reset condition is triggered. Tie pin to VCC if unused.", 5 V5 (in) "Voltage Inputs 1 through 6. When the voltage on this pin is below 0.5V, a reset condition is triggered. Tie pin to VCC if unused.", 6 V6 (in) "Voltage Inputs 1 through 6. When the voltage on this pin is below 0.5V, a reset condition is triggered. Tie pin to VCC if unused.", 7 V7 (in) "Voltage Inputs 7 and 8. The polarity of the input is selected by the state of the SEL pin (refer to Table 1). When the monitored input is configured as a positive voltage, a reset condition is triggered when the pin is below (See Datasheet)", 8 V8 (in) "Voltage Inputs 7 and 8. The polarity of the input is selected by the state of the SEL pin (refer to Table 1). When the monitored input is configured as a positive voltage, a reset condition is triggered when the pin is below (See Datasheet)", 9 GND (power) "Device Ground", 10 REF (out) "Buffered Reference Output. 1V reference used for the offset of negative-monitoring applications. The buffered reference sources and sinks up to 1mA. The reference drives capacitive loads up to 1nF. Larger capacitive loads (See Datasheet)", 11 RST (oc) "Open-Drain Reset Logic Output. Asserts high when any positive polarity input voltage is below threshold or any negative polarity input voltage is above threshold. Held high for an adjustable delay time after all voltage (See Datasheet)", 12 ~{RST} (oc) "Open-Drain Inverted Reset Logic Output. Asserts low when any positive polarity input voltage is below threshold or any negative polarity input voltage is above threshold. Held low for an adjustable delay time after all (See Datasheet)", 13 DIS (in) "Output Disable Input. Disables the RST and R\S\T\ output pins. When DIS is pulled high, the RST and R\S\T\ pins are not asserted except during a UVLO condition. Pin has a weak (2uA) internal pull-down to GND. Leave pin open (See Datasheet)", 14 SEL (in) "Input Polarity Select Three-State Input. Connect to VCC, GND or leave unconnected in open state to select one of three possible input polarity combinations (refer to Table 1).", 15 TMR (in) "Reset Delay Timer. Attach an external capacitor (CTMR) of at least 10pF to GND to set a reset delay time of 9ms/nF. A 1nF capacitor will generate an 8.5ms reset delay time. Tie pin to VCC to bypass timer", 16 VCC (power) "Supply Voltage. Bypass this pin to GND with a 0.1uF (or greater) capacitor. Operates as a direct supply input for voltages up to 6V. Operates as a shunt regulator for supply voltages greater than 6V and must have a (See Datasheet)"

## LTC2910IGN#TRPBF
designator U?
Octal Positive / Negative Voltage Monitor, 16-pin SOP (GN-16), -40 to 85 degC, Pb-Free, Tape and Reel; Manufacturer: Linear Technology; PartNumber: LTC2910IGN#TRPBF; Number of Supplies(#): 8; DatasheetVersion: Rev. C; PackageVersion: Rev. B, 03/2012; PackageReference: GN-16; PackageDescription: 16-Pin Plastic SSOP, Body 4.9 x 3.9 mm, Pitch 0.635 mm; Supplier 1: Digi-Key; Supplier Part Number 1: LTC2910IGN#TRPBF-ND; Supplier 2: Newark; Supplier Part Number 2: 56M6833; Packing: Tape and Reel; RoHS: TRUE; Mounting Technology: Surface Mount; ComponentLink1Description: Manufacturer URL; ComponentLink1URL: http://www.linear.com/; ComponentLink2Description: Datasheet; ComponentLink2URL: http://cds.linear.com/docs/en/datasheet/2910fc.pdf; ComponentLink3Description: Package Specification; ComponentLink3URL: http://cds.linear.com/docs/en/packaging/05081641_B_GN16.pdf
footprint LT-GN-16_N (SOP, 16-Leads, Body 5x4mm, Pitch 0.635mm, IPC Medium Density)
footprint LT-GN-16_L (SOP, 16-Leads, Body 5x4mm, Pitch 0.635mm, IPC High Density)
footprint LT-GN-16_M (SOP, 16-Leads, Body 5x4mm, Pitch 0.635mm, IPC Low Density)
pins: 1 V1 (in) "Voltage Inputs 1 through 6. When the voltage on this pin is below 0.5V, a reset condition is triggered. Tie pin to VCC if unused.", 2 V2 (in) "Voltage Inputs 1 through 6. When the voltage on this pin is below 0.5V, a reset condition is triggered. Tie pin to VCC if unused.", 3 V3 (in) "Voltage Inputs 1 through 6. When the voltage on this pin is below 0.5V, a reset condition is triggered. Tie pin to VCC if unused.", 4 V4 (in) "Voltage Inputs 1 through 6. When the voltage on this pin is below 0.5V, a reset condition is triggered. Tie pin to VCC if unused.", 5 V5 (in) "Voltage Inputs 1 through 6. When the voltage on this pin is below 0.5V, a reset condition is triggered. Tie pin to VCC if unused.", 6 V6 (in) "Voltage Inputs 1 through 6. When the voltage on this pin is below 0.5V, a reset condition is triggered. Tie pin to VCC if unused.", 7 V7 (in) "Voltage Inputs 7 and 8. The polarity of the input is selected by the state of the SEL pin (refer to Table 1). When the monitored input is configured as a positive voltage, a reset condition is triggered when the pin is below (See Datasheet)", 8 V8 (in) "Voltage Inputs 7 and 8. The polarity of the input is selected by the state of the SEL pin (refer to Table 1). When the monitored input is configured as a positive voltage, a reset condition is triggered when the pin is below (See Datasheet)", 9 GND (power) "Device Ground", 10 REF (out) "Buffered Reference Output. 1V reference used for the offset of negative-monitoring applications. The buffered reference sources and sinks up to 1mA. The reference drives capacitive loads up to 1nF. Larger capacitive loads (See Datasheet)", 11 RST (oc) "Open-Drain Reset Logic Output. Asserts high when any positive polarity input voltage is below threshold or any negative polarity input voltage is above threshold. Held high for an adjustable delay time after all voltage (See Datasheet)", 12 ~{RST} (oc) "Open-Drain Inverted Reset Logic Output. Asserts low when any positive polarity input voltage is below threshold or any negative polarity input voltage is above threshold. Held low for an adjustable delay time after all (See Datasheet)", 13 DIS (in) "Output Disable Input. Disables the RST and R\S\T\ output pins. When DIS is pulled high, the RST and R\S\T\ pins are not asserted except during a UVLO condition. Pin has a weak (2uA) internal pull-down to GND. Leave pin open (See Datasheet)", 14 SEL (in) "Input Polarity Select Three-State Input. Connect to VCC, GND or leave unconnected in open state to select one of three possible input polarity combinations (refer to Table 1).", 15 TMR (in) "Reset Delay Timer. Attach an external capacitor (CTMR) of at least 10pF to GND to set a reset delay time of 9ms/nF. A 1nF capacitor will generate an 8.5ms reset delay time. Tie pin to VCC to bypass timer", 16 VCC (power) "Supply Voltage. Bypass this pin to GND with a 0.1uF (or greater) capacitor. Operates as a direct supply input for voltages up to 6V. Operates as a shunt regulator for supply voltages greater than 6V and must have a (See Datasheet)"

## LTC2911CDDB-1#TRMPBF
designator U?
Triple Supply Monitor with Power Fail Comparator, 8-pin SON (DDB-8), 0 to 70 degC, Pb-Free, Mini Tape and Reel; Manufacturer: Linear Technology; PartNumber: LTC2911CDDB-1#TRMPBF; Number of Supplies(#): 3; PackageVersion: Rev. B, 06/2010; PackageReference: DDB-8; PackageDescription: 8-Pin Plastic DFN, Body 3 x 2 mm, Pitch 0.5 mm; Supplier 1: Digi-Key; Supplier Part Number 1: LTC2911CDDB-1#TRMPBF-ND; Packing: Mini Tape and Reel; RoHS: TRUE; Mounting Technology: Surface Mount; Code_JEDEC: MO-229; ComponentLink1Description: Manufacturer URL; ComponentLink1URL: http://www.linear.com/; ComponentLink2Description: Datasheet; ComponentLink2URL: http://cds.linear.com/docs/en/datasheet/2911f.pdf; ComponentLink3Description: Package Specification; ComponentLink3URL: http://cds.linear.com/docs/en/packaging/DFN_8_05-08-1702.pdf
footprint LT-DDB-8_V (SON, 8-Leads, Body 3x2mm, Pitch 0.5mm, Thermal Pad 2.2x0.61mm)
pins: 1 V2 (in) "Voltage Monitor and Power Supply Input. V2 is a -5% undervoltage supply monitor for a 5V, 2.5V, 1.8V or 1.2V supply for the LTC2911-1/LTC2911-2/LTC2911- 3/LTC2911-4 options, respectively. Because the internal VCC is (See Datasheet)", 2 V1 (in) "3.3V Monitor and Power Supply Input. V1 is an accurate 3.3V, -5% undervoltage supply monitor. The internal VCC is generated from the greater of the voltages at the V1 and V2 inputs for the LTC2911-1/LTC2911-2/LTC2911- (See Datasheet)", 3 ~{PFO} (out) "Power-Fail Logic Output. This pin asserts low when the PFI input voltage is below its threshold and goes high when the PFI input voltage is above its threshold. This pin provides a weak pull-up current to V1. This current is (See Datasheet)", 4 ~{RST} (out) "Reset Logic Output. This pin asserts low when any of the V1, V2, or ADJ inputs are below their reset thresholds. Pulls high when all the monitored inputs are above their thresholds for longer than a timeout period. This pin (See Datasheet)", 5 GND (power) "Device Ground.", 6 TMR (in) "Reset Timeout Control. Attach an external capacitor, CTMR, to GND to set a reset timeout period of 9.4ms/nF. A low leakage ceramic capacitor is recommended for timer accuracy. A 2.2nF capacitor generates a 20ms timeout. (See Datasheet)", 7 ADJ (in) "Adjustable Voltage Monitor Input. Input to a voltage monitor comparator with a 0.5V nominal threshold. Tie to V1 if unused.", 8 PFI (in) "Power-Fail Voltage Monitor Input. Input to the powerfail comparator with a 500mV threshold at the falling edge and a 515mV threshold at the rising edge, giving a 3% hysteresis for noise rejection. Tie to V1 or GND if unused.", 9 EP (power) "Exposed pad may be left open or connected to device ground."